# Altium footprint library BGA9C40P3X3_144X135X69.PcbLib: 1 footprints
Each footprint in its own frame and in the unit in brackets; x right, y up, seen from the top. Pads: shape width x height; smd on the part's side, far side on the other; paste and mask are expansions set on the pad; w line width, h text height; cw(c..) or ccw(c..) is an arc to the next point about the centre after c.
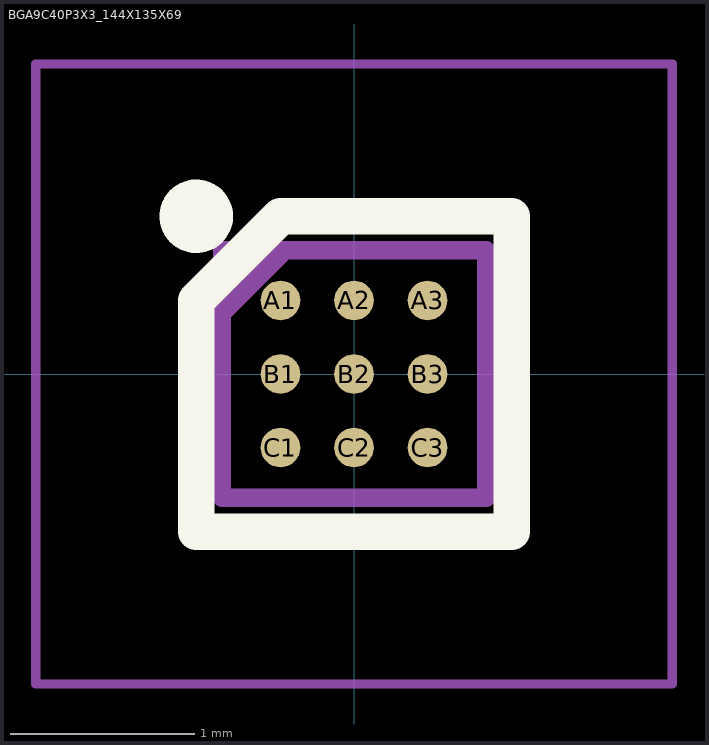
[diagram p0: the footprint, top view; thin cyan lines are the x and y axes]

## BGA9C40P3X3_144X135X69 [mm]
pads (9):
  round 0.216 smd: A1(-0.4,0.4) A2(0,0.4) A3(0.4,0.4) B1(-0.4,0) B2(0,0) B3(0.4,0) C1(-0.4,-0.4) C2(0,-0.4) C3(0.4,-0.4)
Top Overlay:
  circle w0.2: c-0.858,0.858 r0.1
  lines w0.2: -0.858,-0.858 0.858,-0.858 0.858,0.858 -0.4,0.858 -0.858,0.4 -0.858,-0.858
Mechanical 15:
  lines w0.1: -0.718,0.33 -0.375,0.673 ; -0.718,-0.673 0.719,-0.673 0.719,0.674 -0.718,0.674 -0.718,-0.673
Mechanical 20:
  lines w0.05: -1.731,-1.686 1.731,-1.686 1.731,1.686 -1.731,1.686 -1.731,-1.686